# Altium integrated library Header 7.IntLib: 1 symbol
Pins are listed as number, name and electrical type; pins without a type are passive.

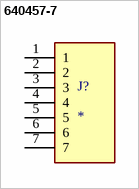
[diagram p0: symbol 640457-7]

## 640457-7
designator J?
07P MTA100 HDR ASSY SQ R/A F/L; MF: TE Connectivity; Number_of_Positions: 7; Centerline_Pitch: 2.54 mm[.1 in]; MP: 640457-7; Product_Type: Connector; Price: None; SnapEDA_Link: https://www.snapeda.com/parts/640457-7/TE%20Connectivity%20AMP%20Connectors/view-part/554536/?ref=snap; EU_RoHS_Compliance: Compliant; Availability: Good; Purchase-URL: https://pricing.snapeda.com/search/part/640457-7/?ref=eda; Value: *; Package: None; Check_prices: https://www.snapeda.com/parts/640457-7/TE%20Connectivity%20AMP%20Connectors/view-part/554536/?ref=eda
footprint TE_640457-7
pins: 1, 2, 3, 4, 5, 6, 7